# Altium schematic symbol library Schlib1.SchLib: 3 symbols
Pins are listed as number, name and electrical type; pins without a type are passive.

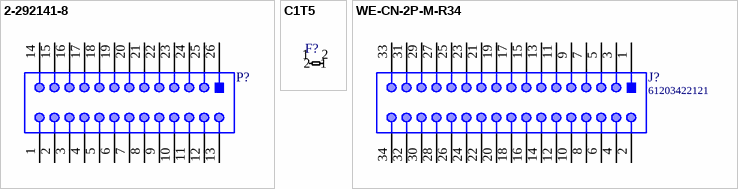
[diagram p0: symbols 2-292141-8 to WE-CN-2P-M-R34]

## 2-292141-8
designator P?
footprint TE_2-292141-6
pins: 1, 2, 3, 4, 5, 6, 7, 8, 9, 10, 11, 12, 13, 14, 15, 16, 17, 18, 19, 20, 21, 22, 23, 24, 25, 26

## C1T5
designator F?  (value not drawn)
ComponentLink1Description: New link; ComponentLink1URL: https://www.mouser.com/ProductDetail/Bel-Fuse/C1T5?qs=GtFly9OVs8%2FF1GxRAaUoTA%3D%3D#.Xzf8gWXWqWc.link
footprint C1T5
pins: 1, 2

## WE-CN-2P-M-R34
designator J?, comment 61203422121
Male Box Header WR-BHD with lever, THT, Angled, pitch 2.54 mm, 34 pins; Manufacturer: Wurth Elektronik; Pitch: 2.54mm; Pin Number: 34; Working Voltage: 250VAC; Contact Resistance: 20mOhm; Withstanding Voltage: 500VAC; Datasheet URL: https://katalog.we-online.de/em/datasheet/6120xx22121.pdf; Operating Temperature: -40to125degC; Published Date: August2018; Publisher: WurthElektronik; Gender: Male; Manufacturer URL: http://www.we-online.de; Part Number: 61203422121; Orientation: Angled; Mounting Technology: THT; Packaging: Tray; Package Reference: 61203422121
footprint 61203422121 (34 pins, right angeled, short lever, gold plating)
pins: 1, 2, 3, 4, 5, 6, 7, 8, 9, 10, 11, 12, 13, 14, 15, 16, 17, 18, 19, 20, 21, 22, 23, 24, 25, 26, 27, 28, 29, 30, 31, 32, 33, 34